# EAGLE library part STEREOSW (library _motovilo)
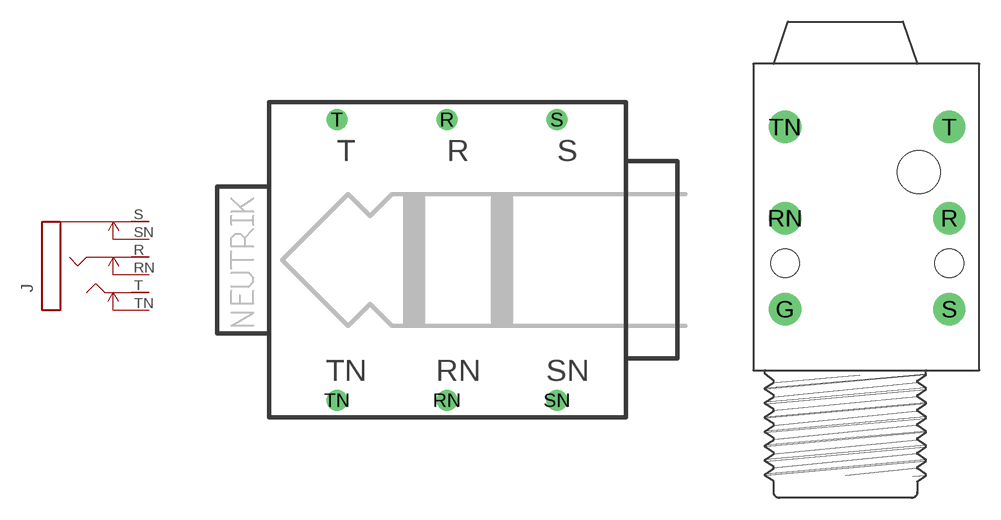
[diagram p2: symbol with the pads of NMJ6HCD2; footprints NMJ6HCD2, NRJ6HF-1]

Designator prefix J

## STEREOSW  [NMJ6HCD2]
R  R  pas
RN  RN  pas
S  S  pas
SN  SN  pas
T  T  pas
TN  TN  pas

## STEREOSWL  [NRJ6HF-1]
G  SN  pas
R  R  pas
RN  RN  pas
S  S  pas
T  T  pas
TN  TN  pas

## STEREOSWS  [NMJ6HC-S]
Pads as for NMJ6HCD2

## STEREOSW1  [NMJ6HC-S]
Pads as for NMJ6HCD2

## Footprint NMJ6HCD2 (pad centres in mm)
drill 0.7: R 0,8.115; RN 0,-8.115; S 6.35,8.115; SN 6.35,-8.115; T -6.35,8.115; TN -6.35,-8.115

## Footprint NRJ6HF-1 (pad centres in mm)
Neutrik Slim Jack NRJ6HF-1
drill 1.5: G -4.2,-5.91; R 7.23,0.44; RN -4.2,0.44; S 7.23,-5.91; T 7.23,6.79; TN -4.2,6.79
hole 2 at 7.23,-2.71
hole 2 at -4.2,-2.71
hole 3 at 5.1,3.64

## Footprint NMJ6HC-S (pad centres in mm)
WQP-PJ6100 6.35mm Audio Jack, right angle. Datasheet: WQP-PJ6100 <http://www.qingpu-electronics.com/en/products/WQP-PJ6100-373.html>
drill 1.5 long: R 0,8.115; RN 0,-8.115; S 6.35,8.115; SN 6.35,-8.115; T -6.35,8.115; TN -6.35,-8.115